# EAGLE library part POCKET_BEAGLE_PINOUT (library Pocket_Beagle_Pinout)
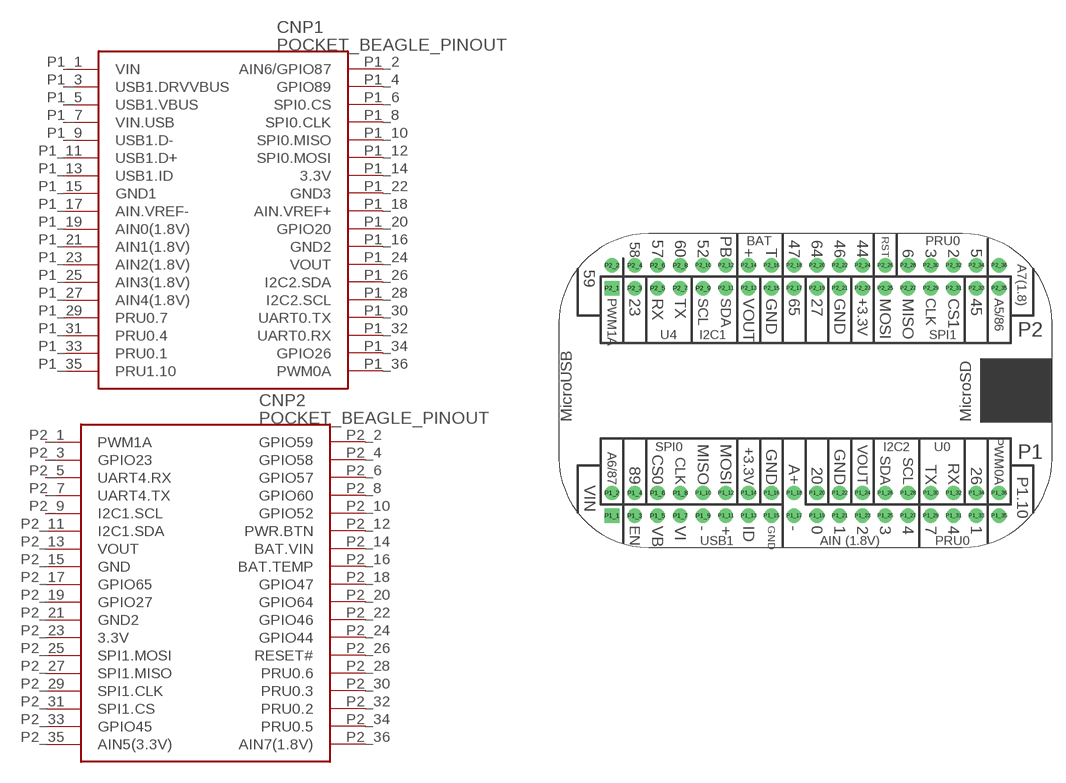
[diagram p0: symbol with the pads of POCKET_BEAGLE_PINOUT; footprint POCKET_BEAGLE_PINOUT]

Designator prefix CN; gates P2=POCKET_BEAGLE_PINOUT_P2 P1=POCKET_BEAGLE_PINOUT_P1

## POCKET_BEAGLE_PINOUT  [POCKET_BEAGLE_PINOUT]
P1_1  P1:VIN
P1_2  P1:AIN6/GPIO87
P1_3  P1:USB1.DRVVBUS
P1_4  P1:GPIO89
P1_5  P1:USB1.VBUS
P1_6  P1:SPI0.CS
P1_7  P1:VIN.USB
P1_8  P1:SPI0.CLK
P1_9  P1:USB1.D-
P1_10  P1:SPI0.MISO
P1_11  P1:USB1.D+
P1_12  P1:SPI0.MOSI
P1_13  P1:USB1.ID
P1_14  P1:3.3V
P1_15  P1:GND1
P1_16  P1:GND2
P1_17  P1:AIN.VREF-
P1_18  P1:AIN.VREF+
P1_19  P1:AIN0(1.8V)
P1_20  P1:GPIO20
P1_21  P1:AIN1(1.8V)
P1_22  P1:GND3
P1_23  P1:AIN2(1.8V)
P1_24  P1:VOUT
P1_25  P1:AIN3(1.8V)
P1_26  P1:I2C2.SDA
P1_27  P1:AIN4(1.8V)
P1_28  P1:I2C2.SCL
P1_29  P1:PRU0.7
P1_30  P1:UART0.TX
P1_31  P1:PRU0.4
P1_32  P1:UART0.RX
P1_33  P1:PRU0.1
P1_34  P1:GPIO26
P1_35  P1:PRU1.10
P1_36  P1:PWM0A
P2_1  P2:PWM1A
P2_2  P2:GPIO59
P2_3  P2:GPIO23
P2_4  P2:GPIO58
P2_5  P2:UART4.RX
P2_6  P2:GPIO57
P2_7  P2:UART4.TX
P2_8  P2:GPIO60
P2_9  P2:I2C1.SCL
P2_10  P2:GPIO52
P2_11  P2:I2C1.SDA
P2_12  P2:PWR.BTN
P2_13  P2:VOUT
P2_14  P2:BAT.VIN
P2_15  P2:GND
P2_16  P2:BAT.TEMP
P2_17  P2:GPIO65
P2_18  P2:GPIO47
P2_19  P2:GPIO27
P2_20  P2:GPIO64
P2_21  P2:GND2
P2_22  P2:GPIO46
P2_23  P2:3.3V
P2_24  P2:GPIO44
P2_25  P2:SPI1.MOSI
P2_26  P2:RESET#
P2_27  P2:SPI1.MISO
P2_28  P2:PRU0.6
P2_29  P2:SPI1.CLK
P2_30  P2:PRU0.3
P2_31  P2:SPI1.CS
P2_32  P2:PRU0.2
P2_33  P2:GPIO45
P2_34  P2:PRU0.5
P2_35  P2:AIN5(3.3V)
P2_36  P2:AIN7(1.8V)

## Footprint POCKET_BEAGLE_PINOUT (pad centres in mm)
drill 0.8 pad 1.6 square: P1_1 -21.59,-13.97; P2_1 -21.59,11.43
drill 0.8 pad 1.6: P1_2 -21.59,-11.43; P1_3 -19.05,-13.97; P1_4 -19.05,-11.43; P1_5 -16.51,-13.97; P1_6 -16.51,-11.43; P1_7 -13.97,-13.97; P1_8 -13.97,-11.43; P1_9 -11.43,-13.97; P1_10 -11.43,-11.43; P1_11 -8.89,-13.97; P1_12 -8.89,-11.43; P1_13 -6.35,-13.97; P1_14 -6.35,-11.43; P1_15 -3.81,-13.97; P1_16 -3.81,-11.43; P1_17 -1.27,-13.97; P1_18 -1.27,-11.43; P1_19 1.27,-13.97; P1_20 1.27,-11.43; P1_21 3.81,-13.97; P1_22 3.81,-11.43; P1_23 6.35,-13.97; P1_24 6.35,-11.43; P1_25 8.89,-13.97; P1_26 8.89,-11.43; P1_27 11.43,-13.97; P1_28 11.43,-11.43; P1_29 13.97,-13.97; P1_30 13.97,-11.43; P1_31 16.51,-13.97; P1_32 16.51,-11.43; P1_33 19.05,-13.97; P1_34 19.05,-11.43; P1_35 21.59,-13.97; P1_36 21.59,-11.43; P2_2 -21.59,13.97; P2_3 -19.05,11.43; P2_4 -19.05,13.97; P2_5 -16.51,11.43; P2_6 -16.51,13.97; P2_7 -13.97,11.43; P2_8 -13.97,13.97; P2_9 -11.43,11.43; P2_10 -11.43,13.97; P2_11 -8.89,11.43; P2_12 -8.89,13.97; P2_13 -6.35,11.43; P2_14 -6.35,13.97; P2_15 -3.81,11.43; P2_16 -3.81,13.97; P2_17 -1.27,11.43; P2_18 -1.27,13.97; P2_19 1.27,11.43; P2_20 1.27,13.97; P2_21 3.81,11.43; P2_22 3.81,13.97; P2_23 6.35,11.43; P2_24 6.35,13.97; P2_25 8.89,11.43; P2_26 8.89,13.97; P2_27 11.43,11.43; P2_28 11.43,13.97; P2_29 13.97,11.43; P2_30 13.97,13.97; P2_31 16.51,11.43; P2_32 16.51,13.97; P2_33 19.05,11.43; P2_34 19.05,13.97; P2_35 21.59,11.43; P2_36 21.59,13.97